# Altium footprint library PCB_OBDH_ALT.PcbLib: 23 footprints (part 1 of 2)
Each footprint in its own frame and in the unit in brackets; x right, y up, seen from the top. Pads: shape width x height; smd on the part's side, far side on the other; paste and mask are expansions set on the pad; w line width, h text height; cw(c..) or ccw(c..) is an arc to the next point about the centre after c.
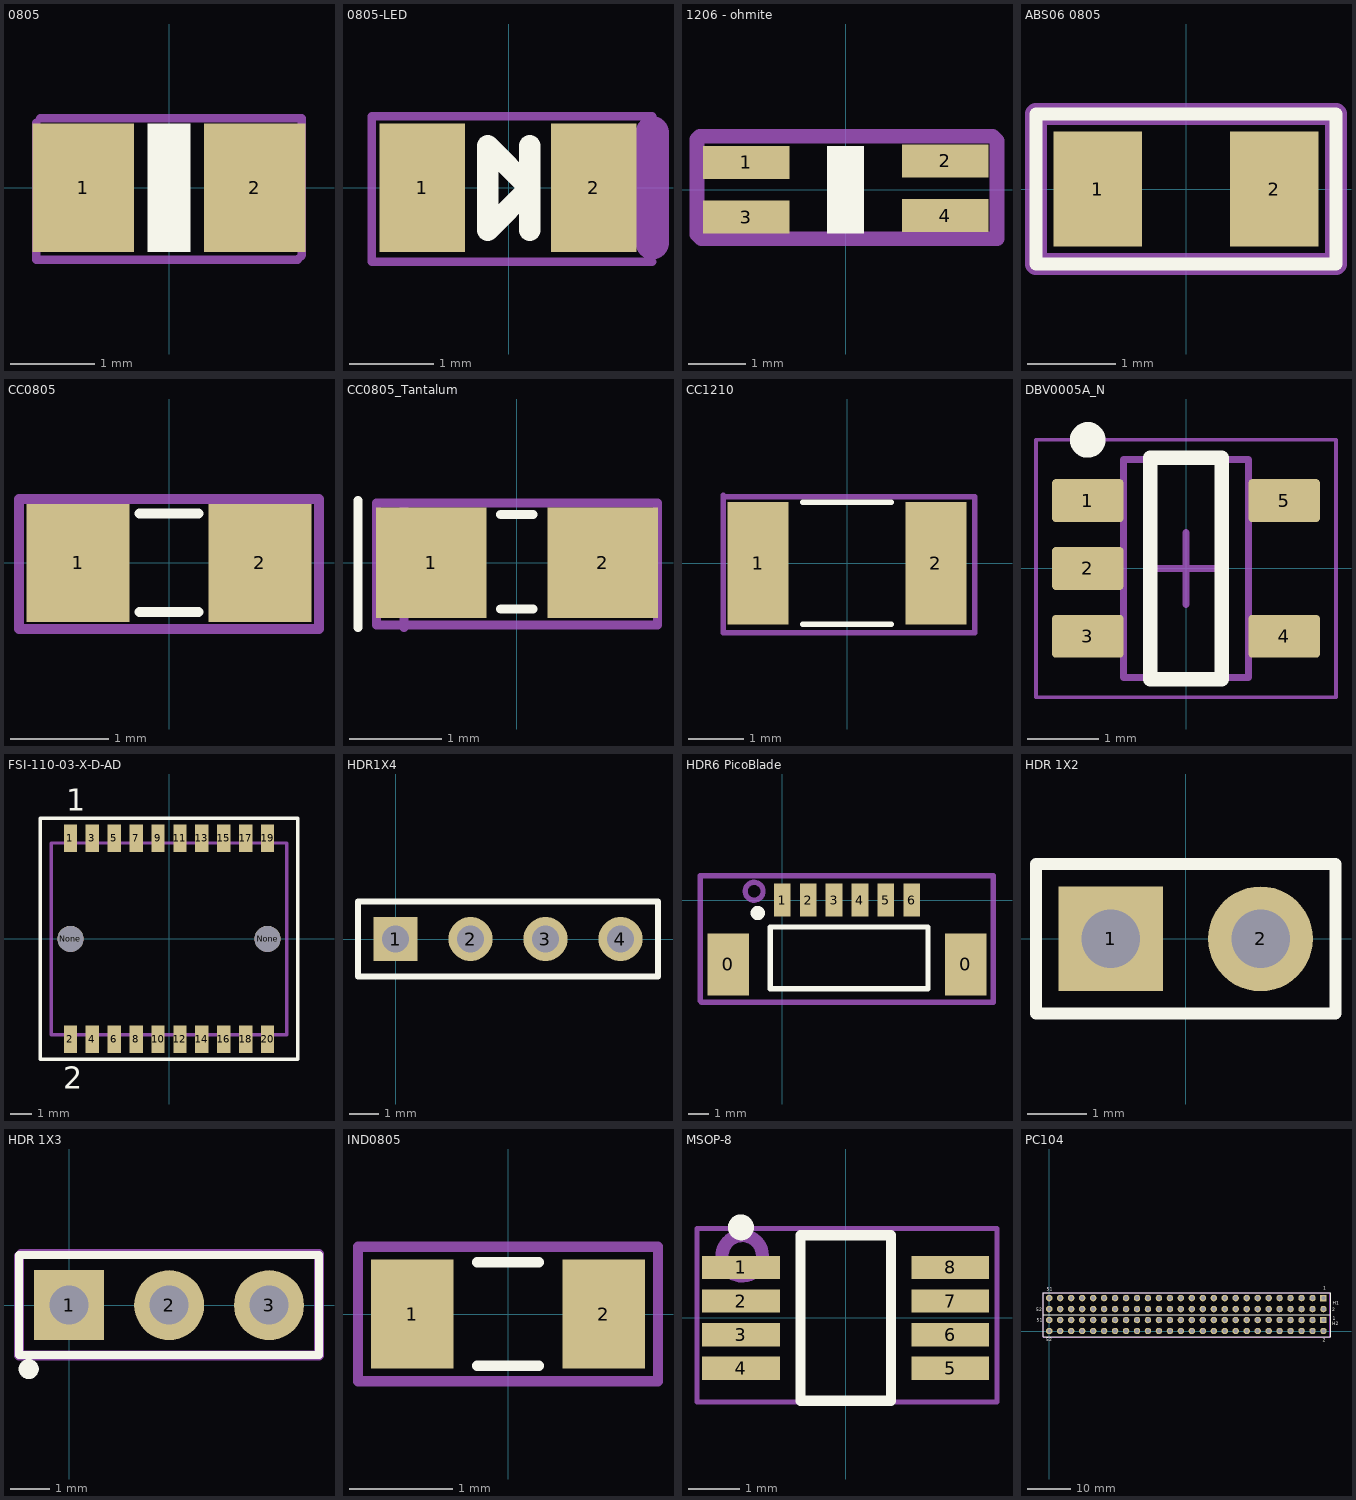
[diagram p0: the footprints below, top view; thin cyan lines are the x and y axes]

## 0805 [mil]
pads (2):
  rect 47.24x60 smd: 1(-40,0) 2(40,0)
Top Overlay:
  rectangle: -10,-30 10,30
Mechanical 15:
  lines w3.94: -62.01,30.51 -62.01,-33.46 60.04,-33.46 62.01,-31.5 62.01,32.48 -60.04,32.48
  text ".Designator" at -58.7,-2.44 h19.68
3D body "RES0805(2012M).STEP": height 31.1, standoff 0, extent -50,-24.49 48.75,24.51

## 0805-LED [mil]
height 122.05
pads (2):
  rect 40x60 smd: 1(-40.35,0) 2(39.65,0)
Top Overlay:
  lines w10: 9.84,-19.68 9.84,19.68 ; -9.84,-19.68 9.84,0 -9.84,19.68 -9.84,-19.68
Mechanical 15:
  lines w3.94: 66.93,-34.45 -63.98,-34.45 -63.98,33.46 66.93,33.46
  lines w15.75: 66.93,-25.59 66.93,25.59
  text ".Designator" at -41.34,-1.97 h19.68
3D body "User Library-led_0805LED0805_red.STEP": height 43.31, standoff 0, extent -39.76,-24.6 39.77,24.61

## 1206 - ohmite [mm]
height 3.1
pads (4):
  rect 1.5x0.57 smd: 1(-1.725,0.475) 2(1.725,0.5) 3(-1.725,-0.475) 4(1.725,-0.45)
Top Overlay:
  rectangle: -0.317,-0.762 0.318,0.762
Mechanical 15:
  lines w0.254: -2.575,-0.775 -2.5,-0.85 2.625,-0.85 2.625,0.85 2.55,0.925 -2.525,0.925 -2.575,0.875 -2.575,-0.775
  text ".Designator" at -2.575,-0.075 h0.5
3D body "RES1206(3216M).STEP": height 1.53, standoff 0, extent -2.015,-0.8 1.986,0.8

## ABS06 0805 [mm]
height 3.1
pads (2):
  rect 1x1.3 smd: 1(-1,0) 2(1,0)
Top Overlay:
  lines w0.15: -1.7,-0.85 1.7,-0.85 1.7,0.85 -1.7,0.85 -1.7,-0.85
Mechanical 15:
  lines w0.15: -1.7,-0.85 -1.7,0.85 1.7,0.85 1.7,-0.85 -1.7,-0.85
  lines w0.254: -1.7,-0.85 1.7,-0.85 1.7,0.85 -1.7,0.85 -1.7,-0.85
  text ".Designator" at -1.45,-0.25 h0.5
3D body "ABS06.STEP": height 0.6, standoff 0, extent -1,-0.6 1,0.62

## CC0805 [mm] "TDK mlccspec_commercial_general_midvoltage_en.pdf"
height 1.25
pads (2):
  rect 1.05x1.2 smd: 1(-0.925,0) 2(0.925,0)
Top Overlay:
  lines w0.1: -0.3,-0.5 0.3,-0.5 ; -0.3,0.5 0.3,0.5
Mechanical 15:
  lines w0.1: -1.525,-0.675 -1.525,0.65 1.525,0.65 1.525,-0.675 -1.525,-0.675
  text ".Designator" at -1.275,-0.075 h0.5
3D body "CC0805(2012M).STEP": height 0.78, standoff -0.01, extent -1.254,-0.622 1.254,0.622

## CC0805_Tantalum [mm] "TDK mlccspec_commercial_general_midvoltage_en.pdf"
height 1.25
pads (2):
  rect 1.2x1.2 smd: 1(-0.93,0) 2(0.93,0)
Top Overlay:
  lines w0.1: -1.725,-0.7 -1.725,0.675 ; -0.175,-0.5 0.175,-0.5 ; -0.175,0.525 0.175,0.525
Mechanical 15:
  lines w0.1: -1.225,-0.7 -1.225,0.625 ; -1.525,-0.675 1.525,-0.675 1.525,0.65 -1.525,0.65 -1.525,-0.675
  text ".Designator" at 1.28,0.24 h0.5
3D body "User Library-Tantalum Capacitor Case R.STEP": height 1.35, standoff 0, extent -1.042,-0.585 1.208,0.765

## CC1210 [mm] "TDK mlccspec_commercial_general_midvoltage_en.pdf"
height 2.5
pads (2):
  rect 1.1x2.2 smd: 1(-1.6,0) 2(1.6,0)
Top Overlay:
  lines w0.1: -0.8,-1.1 0.8,-1.1 ; -0.8,1.1 0.8,1.1
Mechanical 15:
  lines w0.1: -2.225,1.225 -2.225,-1.25 2.3,-1.25 2.3,1.2 -2.175,1.2
  text ".Designator" at -1.66,0.01 h0.5
3D body "CC1210(3225M).STEP": height 1.69, standoff -0.01, extent -2,-1.244 2,1.245

## DBV0005A_N [mm] "SOT23, 5-Leads, Body 3.05x1.75mm, Pitch 0.95mm, IPC Medium Density"
height 1.45
pads (5):
  rrect17% 1x0.6 smd: 1(-1.375,0.95) 2(-1.375,0) 3(-1.375,-0.95) 4(1.375,-0.95) 5(1.375,0.95)
Top Overlay:
  circle w0.25: c-1.375,1.8 r0.125
  lines w0.2: -0.5,-1.55 -0.5,1.55 0.5,1.55 0.5,-1.55 -0.5,-1.55
Mechanical 1:
  text ".Designator" at -0.635,-0.254 h0.4
Mechanical 13:
  lines w0.1: -0.875,-1.525 0.875,-1.525 0.875,1.525 -0.875,1.525 -0.875,-1.525
Mechanical 15:
  lines w0.05: -2.1,-1.8 2.1,-1.8 2.1,1.8 -2.1,1.8 -2.1,-1.8
  lines w0.1: -0.5,0 0.5,0 ; 0,-0.5 0,0.5
3D body "DBV0005AaksMF05A.stp": height 1.08, standoff -0.01, extent -1.422,-1.461 1.422,1.46

## FSI-110-03-X-D-AD [mm]
pads (22):
  rect 0.61x1.26 smd: 1(-4.5,4.59) 2(-4.5,-4.59) 3(-3.5,4.59) 4(-3.5,-4.59) 5(-2.5,4.59) 6(-2.5,-4.59) 7(-1.5,4.59) 8(-1.5,-4.59) 9(-0.5,4.59) 10(-0.5,-4.59) 11(0.5,4.59) 12(0.5,-4.59) 13(1.5,4.59) 14(1.5,-4.59) 15(2.5,4.59) 16(2.5,-4.59) 17(3.5,4.59) 18(3.5,-4.59) 19(4.5,4.59) 20(4.5,-4.59)
  round 1.19 hole 1.19 unplated: None(-4.5,0) None(4.5,0)
Top Overlay:
  lines w0.15: -5.88,-5.5 -5.88,5.5 5.88,5.5 5.88,-5.5 -5.88,-5.5
  text "1" at -4.699,5.842 h1
  text "2" at -4.826,-6.858 h1
Mechanical 4:
  lines w0.15: -5.38,-4.38 -5.38,4.38 ; -5.38,-4.38 5.38,-4.38 ; -5.38,-4.38 -5.38,4.38 ; -5.38,-4.38 5.38,-4.38 ; -5.38,4.38 5.38,4.38 ; -5.38,4.38 5.38,4.38 ; 5.38,-4.38 5.38,4.38 ; 5.38,-4.38 5.38,4.38
3D body "FSI-110-03-G-D-AD.x_t": height 4.25, standoff -1.55, extent -5.38,-4.936 5.38,5.064

## HDR1X4 [mm] "Connector; Header; 4 Position"
height 3.1
pads (4):
  rect 1.5x1.5 hole 0.9: 1(0,0)
  round 1.5 hole 0.9: 2(2.54,0) 3(5.08,0) 4(7.62,0)
Top Overlay:
  lines w0.2: -1.27,-1.27 -1.27,1.27 8.89,1.27 8.89,-1.27 -1.27,-1.27

## HDR6 PicoBlade [mm]
pads (8):
  rect 2x3 smd: 0(-2.6,-3.1) 0(8.85,-3.1)
  rect 0.8x1.6 smd: 1(0,0) 2(1.25,0) 3(2.5,0) 4(3.75,0) 5(5,0) 6(6.25,0)
Top Overlay:
  circle w0.5: c-1.175,-0.625 r0.09
  lines w0.254: -0.574,-4.275 7.025,-4.275 7.025,-1.3 -0.574,-1.3 -0.574,-4.275
Mechanical 15:
  circle w0.254: c-1.35,0.425 r0.432
  lines w0.254: -3.95,-4.85 -3.95,1.175 10.175,1.175 10.175,-4.925 -3.875,-4.925 -3.95,-4.85
  text ".Designator" at -3.341,-1.212 h0.5
3D body "User Library-molex 5339853398-0671.STEP": height 4.7, standoff 0, extent -3.125,-4.325 9.525,-0.125

## HDR 1X2 [mil]
pads (2):
  rect 70x70 hole 39: 1(-50,0)
  round 70 hole 39: 2(50,0)
Top Overlay:
  lines w8: -100,-50 -100,50 100,50 100,-50 -100,-50
Mechanical 15:
  lines w3.94: -99.41,-50.2 -99.41,49.21 100.39,49.21 100.39,-50.2 -99.41,-50.2
  text ".Designator" at -78.74,-36.42 h19.68
3D body "Samtec-HTSW-102-07-G-S.STEP": height 330, standoff -100, extent -99.99,-49.99 100.01,50.01

## HDR 1X3 [mil]
height 122.05
pads (3):
  rect 70x70 hole 39: 1(0,0)
  round 70 hole 39: 2(100,0) 3(200,0)
Top Overlay:
  circle w10: c-40.45,-63.98 r5.02
  lines w8: -50,-50 -50,50 250,50 250,-50 -50,-50
Mechanical 15:
  lines w10: -50.2,-50.2 -50.2,49.21 -48.23,51.18 250,51.18 250,-50.2 -50.2,-50.2
  text ".Designator" at -29.13,-5.51 h19.68
3D body "Samtec-HTSW-103-07-G-S.STEP": height 330, standoff -100, extent -49.99,-49.99 250.01,50.01

## IND0805 [mm]
height 1.25
pads (2):
  rect 0.8x1.05 smd: 1(-0.925,0) 2(0.925,0)
Top Overlay:
  lines w0.1: -0.3,-0.5 0.3,-0.5 ; -0.3,0.5 0.3,0.5
Mechanical 15:
  lines w0.1: -1.45,-0.65 -1.45,0.65 1.45,0.65 1.45,-0.65 -1.45,-0.65
  text ".Designator" at -1.15,-0.1 h0.5
3D body "INDC0805(2012M).STEP": height 0.95, standoff 0, extent -1,-0.6 1,0.6

## MSOP-8 [mm] "8-Lead Mini Small Outline Package [MSOP] (RM-8)"
height 0.95
pads (8):
  rect 1.5x0.45 smd: 1(-2.025,0.975) 2(-2.025,0.325) 3(-2.025,-0.325) 4(-2.025,-0.975) 5(2.025,-0.975) 6(2.025,-0.325) 7(2.025,0.325) 8(2.025,0.975)
Top Overlay:
  circle w0.25: c-2.025,1.75 r0.125
  lines w0.2: -0.875,-1.6 0.875,-1.6 0.875,1.6 -0.875,1.6 -0.875,-1.6
Mechanical 15:
  circle w0.254: c-2,1.2 r0.391
  lines w0.1: -2.875,-1.625 2.925,-1.625 2.925,1.725 -2.875,1.725 -2.875,-1.625
  text ".Designator" at -1.754,-0.292 h0.5
3D body "MSOP-8 (MO-187-AA).STEP": height 1.1, standoff 0, extent -2.46,-1.5 2.459,1.5

## PC104 [mm] "Connector; Header; 26x4 Position"
height 3.1
pads (104):
  rect 1.5x1.5 hole 0.9: H1-1(63.5,7.7) H2-1(63.5,2.625)
  round 1.5 hole 0.9: H1-2(63.5,5.16) H1-3(60.96,7.7) H1-4(60.96,5.16) H1-5(58.42,7.7) H1-6(58.42,5.16) H1-7(55.88,7.7) H1-8(55.88,5.16) H1-9(53.34,7.7) H1-10(53.34,5.16) H1-11(50.8,7.7) H1-12(50.8,5.16) H1-13(48.26,7.7) H1-14(48.26,5.16) H1-15(45.72,7.7) H1-16(45.72,5.16) H1-17(43.155,7.7) H1-18(43.18,5.16) H1-19(40.64,7.7) H1-20(40.64,5.16) H1-21(38.1,7.7) H1-22(38.1,5.16) H1-23(35.56,7.7) H1-24(35.56,5.16) H1-25(33.02,7.7) H1-26(33.02,5.16) H1-27(30.48,7.7) H1-28(30.48,5.16) H1-29(27.94,7.7) H1-30(27.94,5.16) H1-31(25.4,7.7) H1-32(25.4,5.16) H1-33(22.86,7.7) H1-34(22.86,5.16) H1-35(20.32,7.7) H1-36(20.32,5.16) H1-37(17.78,7.7) H1-38(17.78,5.16) H1-39(15.24,7.7) H1-40(15.24,5.16) H1-41(12.7,7.7) H1-42(12.7,5.16) H1-43(10.16,7.7) H1-44(10.16,5.16) H1-45(7.62,7.7) H1-46(7.62,5.16) H1-47(5.08,7.7) H1-48(5.08,5.16) H1-49(2.54,7.7) H1-50(2.54,5.16) H1-51(0,7.7) H1-52(0,5.16) H2-2(63.5,0.08) H2-3(60.96,2.62) H2-4(60.96,0.08) H2-5(58.42,2.62) H2-6(58.42,0.08) H2-7(55.88,2.62) H2-8(55.88,0.08) H2-9(53.34,2.625) H2-10(53.34,0.08) H2-11(50.8,2.625) H2-12(50.8,0.08) H2-13(48.26,2.62) H2-14(48.26,0.08) H2-15(45.72,2.62) H2-16(45.72,0.08) H2-17(43.155,2.62) H2-18(43.18,0.08) H2-19(40.64,2.62) H2-20(40.64,0.08) H2-21(38.1,2.62) H2-22(38.1,0.08) H2-23(35.56,2.62) H2-24(35.56,0.08) H2-25(33.02,2.62) H2-26(33.02,0.08) H2-27(30.48,2.62) H2-28(30.48,0.08) H2-29(27.94,2.62) H2-30(27.94,0.08) H2-31(25.4,2.62) H2-32(25.4,0.08) H2-33(22.86,2.62) H2-34(22.86,0.08) H2-35(20.32,2.62) H2-36(20.32,0.08) H2-37(17.78,2.62) H2-38(17.78,0.08) H2-39(15.24,2.62) H2-40(15.24,0.08) H2-41(12.7,2.62) H2-42(12.7,0.08) H2-43(10.16,2.62) H2-44(10.16,0.08) H2-45(7.62,2.62) H2-46(7.62,0.08) H2-47(5.08,2.62) H2-48(5.08,0.08) H2-49(2.54,2.62) H2-50(2.54,0.08) H2-51(0,2.62) H2-52(0,0.08)
Top Overlay:
  lines w0.2: -1.375,-1.225 -1.375,3.895 65.175,3.895 65.175,-1.225 -1.375,-1.225 ; -1.375,3.89 65.175,3.89 65.175,8.97 -1.375,8.97 -1.375,3.89
  text "H1" at 65.59,6.18 h0.75
  text "H2" at 65.53,1.41 h0.75
  text "52" at -3.07,4.6 h0.75
  text "51" at -0.62,9.36 h0.75
  text "51" at -2.88,2.25 h0.75
  text "52" at -0.74,-2.34 h0.75
  text "1" at 63.47,9.66 h0.75
  text "2" at 65.56,4.61 h0.75
  text "2" at 63.28,-2.38 h0.75
  text "1" at 65.65,2.6 h0.75
Mechanical 15:
  lines w0.1: -1.375,-1.325 64.975,-1.325 64.975,8.975 -1.375,8.975 -1.375,-1.325
  text "PC104" at 48.95,4.83 h1
3D body "Samtec-ESQ-126-49-G-D.STEP": height 13.51, standoff -9.73, extent -1.45,3.835 65.098,8.915
3D body "Samtec-ESQ-126-49-G-D.STEP": height 13.51, standoff -9.73, extent -1.474,-1.065 65.074,4.015